# Altium footprint library Main.PcbLib: 25 footprints (part 2 of 2)
Each footprint in its own frame and in the unit in brackets; x right, y up, seen from the top. Pads: shape width x height; smd on the part's side, far side on the other; paste and mask are expansions set on the pad; w line width, h text height; cw(c..) or ccw(c..) is an arc to the next point about the centre after c.
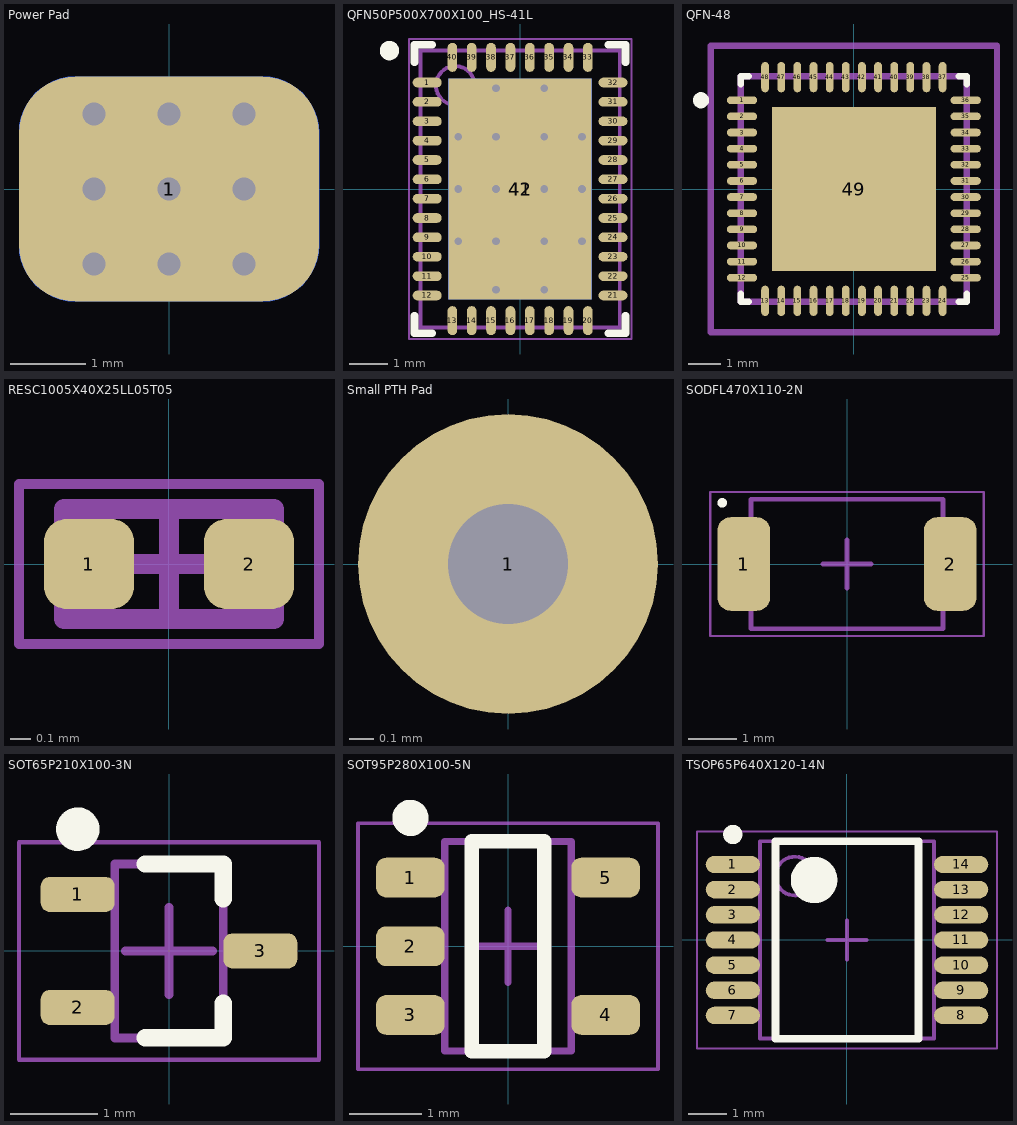
[diagram p1: the footprints below, top view; thin cyan lines are the x and y axes]

## Power Pad [mm]
pads (2):
  rrect50% 4x3 smd: 1(0,0)
  rrect50% 4x3 smd far side: 1(0,0)
via 1,0 diameter 0.305 hole 0.305
via -1,0 diameter 0.305 hole 0.305
via 0,0 diameter 0.305 hole 0.305
via 1,-1 diameter 0.305 hole 0.305
via -1,-1 diameter 0.305 hole 0.305
via 0,-1 diameter 0.305 hole 0.305
via 1,1 diameter 0.305 hole 0.305
via -1,1 diameter 0.305 hole 0.305
via 0,1 diameter 0.305 hole 0.305

## QFN50P500X700X100_HS-41L [mm] "QFN, 40-Leads, Body 5.00x7.00mm, Pitch 0.50mm, Thermal Pad 3.70x5.70mm, IPC High Density"
height 1
pads (42):
  oval 0.75x0.25 smd paste-0.05 mask+0.07: 1(-2.4,2.75) 2(-2.4,2.25) 3(-2.4,1.75) 4(-2.4,1.25) 5(-2.4,0.75) 6(-2.4,0.25) 7(-2.4,-0.25) 8(-2.4,-0.75) 9(-2.4,-1.25) 10(-2.4,-1.75) 11(-2.4,-2.25) 12(-2.4,-2.75) 21(2.4,-2.75) 22(2.4,-2.25) 23(2.4,-1.75) 24(2.4,-1.25) 25(2.4,-0.75) 26(2.4,-0.25) 27(2.4,0.25) 28(2.4,0.75) 29(2.4,1.25) 30(2.4,1.75) 31(2.4,2.25) 32(2.4,2.75)
  oval 0.25x0.75 smd paste-0.05 mask+0.07: 13(-1.75,-3.4) 14(-1.25,-3.4) 15(-0.75,-3.4) 16(-0.25,-3.4) 17(0.25,-3.4) 18(0.75,-3.4) 19(1.25,-3.4) 20(1.75,-3.4) 33(1.75,3.4) 34(1.25,3.4) 35(0.75,3.4) 36(0.25,3.4) 37(-0.25,3.4) 38(-0.75,3.4) 39(-1.25,3.4) 40(-1.75,3.4)
  rect 3.7x5.7 smd paste-2.85 mask+0.07: 41(0,0)
  rect 3.7x5.7 smd far side paste-2.85 mask+0.102: 42(0,0)
via -0.625,2.6 diameter 0.2 hole 0.2
via -0.625,-1.35 diameter 0.2 hole 0.2
via -0.625,0 diameter 0.2 hole 0.2
via -0.625,1.35 diameter 0.2 hole 0.2
via -1.6,1.35 diameter 0.2 hole 0.2
via -1.6,0 diameter 0.2 hole 0.2
via -1.6,-1.35 diameter 0.2 hole 0.2
via 0.625,-2.6 diameter 0.2 hole 0.2
via -0.625,-2.6 diameter 0.2 hole 0.2
via 0.625,-1.35 diameter 0.2 hole 0.2
via 0.625,0 diameter 0.2 hole 0.2
via 0.625,1.35 diameter 0.2 hole 0.2
via 0.625,2.6 diameter 0.2 hole 0.2
via 1.6,1.35 diameter 0.2 hole 0.2
via 1.6,0 diameter 0.2 hole 0.2
via 1.6,-1.35 diameter 0.2 hole 0.2
Top Overlay:
  circle w0.25: c-3.375,3.575 r0.125
  lines w0.2: -2.725,-3.275 -2.725,-3.725 -2.275,-3.725 ; -2.725,3.275 -2.725,3.725 -2.275,3.725 ; 2.275,-3.725 2.725,-3.725 2.725,-3.275 ; 2.275,3.725 2.725,3.725 2.725,3.275
Top Paste:
  rectangle: 0.725,1.45 1.775,2.6
  rectangle: -0.525,1.45 0.525,2.6
  region: -0.725,2.6 -1.775,2.6 -1.775,1.45 -0.725,1.45
  region: -0.725,1.25 -1.775,1.25 -1.775,0.1 -0.725,0.1
  rectangle: -0.525,0.1 0.525,1.25
  rectangle: 0.725,0.1 1.775,1.25
  rectangle: 0.725,-1.25 1.775,-0.1
  rectangle: -0.525,-1.25 0.525,-0.1
  region: -0.725,-0.1 -1.775,-0.1 -1.775,-1.25 -0.725,-1.25
  region: -0.725,-1.45 -1.775,-1.45 -1.775,-2.6 -0.725,-2.6
  rectangle: -0.525,-2.6 0.525,-1.45
  rectangle: 0.725,-2.6 1.775,-1.45
Mechanical 13:
  circle w0.1: c-1.675,2.675 r0.5
  lines w0.1: -2.575,-3.575 -2.575,3.575 2.575,3.575 2.575,-3.575 -2.575,-3.575
Mechanical 15:
  lines w0.05: -2.875,-3.875 -2.875,3.875 2.875,3.875 2.875,-3.875 -2.875,-3.875
  lines w0.1: -0.5,0 0.5,0 ; 0,-0.5 0,0.5
3D body "QFN50P500X700X100_HS-41L.step": height 1, standoff 0, extent -2.655,-3.655 2.655,3.655

## QFN-48 [mm] "ATSAMD21G18A-M Footprint"
pads (49):
  oval 0.94x0.239 smd paste-0.051: 1(-3.465,2.75) 2(-3.465,2.25) 3(-3.465,1.75) 4(-3.465,1.25) 5(-3.465,0.75) 6(-3.465,0.25) 7(-3.465,-0.25) 8(-3.465,-0.75) 9(-3.465,-1.25) 10(-3.465,-1.75) 11(-3.465,-2.25) 12(-3.465,-2.75) 25(3.466,-2.75) 26(3.466,-2.25) 27(3.466,-1.75) 28(3.466,-1.25) 29(3.466,-0.75) 30(3.466,-0.25) 31(3.466,0.25) 32(3.466,0.75) 33(3.466,1.25) 34(3.466,1.75) 35(3.466,2.25) 36(3.466,2.75)
  oval 0.239x0.94 smd paste-0.051: 13(-2.75,-3.465) 14(-2.25,-3.465) 15(-1.75,-3.465) 16(-1.25,-3.465) 17(-0.75,-3.465) 18(-0.25,-3.465) 19(0.25,-3.465) 20(0.75,-3.465) 21(1.25,-3.465) 22(1.75,-3.465) 23(2.25,-3.465) 24(2.75,-3.465) 37(2.75,3.466) 38(2.25,3.466) 39(1.75,3.466) 40(1.25,3.466) 41(0.75,3.466) 42(0.25,3.466) 43(-0.25,3.466) 44(-0.75,3.466) 45(-1.25,3.466) 46(-1.75,3.466) 47(-2.25,3.466) 48(-2.75,3.466)
  rect 5.08x5.08 smd paste-1000: 49(0,0)
Top Overlay:
  circle w0.25: c-4.735,2.75 r0.125
  lines w0.2: -3.5,-3.25 -3.5,-3.5 -3.25,-3.5 ; -3.5,3.25 -3.5,3.5 -3.25,3.5 ; 3.25,-3.5 3.5,-3.5 3.5,-3.25 ; 3.25,3.5 3.5,3.5 3.5,3.25
Top Paste:
  rectangle: -1.982,0.322 -0.322,1.982
  rectangle: 0.322,0.322 1.982,1.982
  rectangle: -1.982,-1.982 -0.322,-0.322
  rectangle: 0.322,-1.982 1.982,-0.322
Mechanical 5:
  lines w0.2: -4.435,-4.435 4.435,-4.435 4.435,4.435 -4.435,4.435 -4.435,-4.435
Mechanical 13:
  lines w0.2: -3.5,-3.5 3.5,-3.5 3.5,3.5 -3.5,3.5 -3.5,-3.5
Mechanical 15:
  lines w0.2: -4.435,-4.435 4.435,-4.435 4.435,4.435 -4.435,4.435 -4.435,-4.435
Mechanical 16:
  lines w0.1: -0.5,0 0.5,0 ; 0,-0.5 0,0.5
3D body "IC_Microchip_ATSAMD21G18A-MF_eec.STEP": height 0.25, standoff 0, extent -4.435,-4.435 4.435,4.435

## RESC1005X40X25LL05T05 [mm] "Chip Resistor, 2-Leads, Body 1.05x0.55mm, IPC High Density"
height 0.4
pads (2):
  rrect50% 0.45x0.45 smd: 1(-0.4,0) 2(0.4,0)
Mechanical 13:
  lines w0.1: -0.525,-0.275 -0.525,0.275 0.525,0.275 0.525,-0.275 -0.525,-0.275
Mechanical 15:
  lines w0.05: -0.75,-0.4 -0.75,0.4 0.75,0.4 0.75,-0.4 -0.75,-0.4
  lines w0.1: -0.275,0 0.275,0 ; 0,-0.275 0,0.275
3D body "RESC1005X04L.step": height 0.4, standoff 0, extent -0.525,-0.275 0.525,0.275

## Small PTH Pad [mm]
pads (1):
  round 1.25 hole 0.5: 1(0,0)

## SODFL470X110-2N [mm] "SODFL, 2-Leads, Body 2.50x4.70mm, IPC Medium Density"
height 1.1
pads (2):
  rrect50% 1.1x1.95 smd: 1(-2.15,0) 2(2.15,0)
Top Overlay:
  circle w0.1: c-2.6,1.275 r0.05
Mechanical 13:
  lines w0.1: -2,-1.35 2,-1.35 2,1.35 -2,1.35 -2,-1.35
Mechanical 15:
  lines w0.05: -2.85,-1.5 2.85,-1.5 2.85,1.5 -2.85,1.5 -2.85,-1.5
  lines w0.1: -0.5,0 0.5,0 ; 0,-0.5 0,0.5
3D body "SODFL470X110-2N.step": height 1.1, standoff 0, extent -2.35,-1.35 2.35,1.35

## SOT65P210X100-3N [mm] "SOT23, 3-Leads, Body 2.00x2.10mm, Pitch 0.65mm, IPC Medium Density"
height 1
pads (3):
  rrect50% 0.85x0.4 smd: 1(-1.05,0.65) 2(-1.05,-0.65) 3(1.05,0)
Top Overlay:
  circle w0.25: c-1.05,1.4 r0.125
  lines w0.2: -0.275,-1 0.625,-1 0.625,-0.6 ; -0.275,1 0.625,1 0.625,0.6
Mechanical 13:
  lines w0.1: -0.625,-1 0.625,-1 0.625,1 -0.625,1 -0.625,-1
Mechanical 15:
  lines w0.05: -1.725,-1.25 1.725,-1.25 1.725,1.25 -1.725,1.25 -1.725,-1.25
  lines w0.1: -0.5,0 0.5,0 ; 0,-0.5 0,0.5
3D body "SOT65P210X100-3N.step": height 1, standoff 0, extent -1.05,-1 1.05,1

## SOT95P280X100-5N [mm] "SOT23, 5-Leads, Body 2.90x2.80mm, Pitch 0.95mm, IPC Medium Density"
height 1
pads (5):
  rrect50% 0.95x0.55 smd: 1(-1.35,0.95) 2(-1.35,0) 3(-1.35,-0.95) 4(1.35,-0.95) 5(1.35,0.95)
Top Overlay:
  circle w0.25: c-1.35,1.775 r0.125
  lines w0.2: -0.5,-1.45 -0.5,1.45 0.5,1.45 0.5,-1.45 -0.5,-1.45
Mechanical 13:
  lines w0.1: -0.875,-1.45 0.875,-1.45 0.875,1.45 -0.875,1.45 -0.875,-1.45
Mechanical 15:
  lines w0.05: -2.075,-1.7 2.075,-1.7 2.075,1.7 -2.075,1.7 -2.075,-1.7
  lines w0.1: -0.5,0 0.5,0 ; 0,-0.5 0,0.5
3D body "SOT95P280X100-5N.step": height 1, standoff 0, extent -1.4,-1.45 1.4,1.45

## TSOP65P640X120-14N [mm] "TSOP, 14-Leads, Body 5.00x4.40mm, Pitch 0.65mm, IPC Medium Density"
height 1.2
pads (14):
  oval 1.4x0.45 smd: 1(-2.95,1.95) 2(-2.95,1.3) 3(-2.95,0.65) 4(-2.95,0) 5(-2.95,-0.65) 6(-2.95,-1.3) 7(-2.95,-1.95) 8(2.95,-1.95) 9(2.95,-1.3) 10(2.95,-0.65) 11(2.95,0) 12(2.95,0.65) 13(2.95,1.3) 14(2.95,1.95)
Top Overlay:
  circle w0.25: c-2.95,2.725 r0.125
  circle w0.6: c-0.85,1.55 r0.3
  lines w0.2: -1.85,-2.55 -1.85,2.55 1.85,2.55 1.85,-2.55 -1.85,-2.55
Mechanical 13:
  circle w0.1: c-1.35,1.65 r0.5
  lines w0.1: -2.25,-2.55 -2.25,2.55 2.25,2.55 2.25,-2.55 -2.25,-2.55
Mechanical 15:
  lines w0.05: -3.875,-2.8 -3.875,2.8 3.875,2.8 3.875,-2.8 -3.875,-2.8
  lines w0.1: -0.5,0 0.5,0 ; 0,-0.5 0,0.5
3D body "TSOP65P640X120-14N.step": height 1.2, standoff 0, extent -3.2,-2.55 3.2,2.55